# Altium schematic symbol library CONNECTORS.SchLib: 9 symbols
Pins are listed as number, name and electrical type; pins without a type are passive.

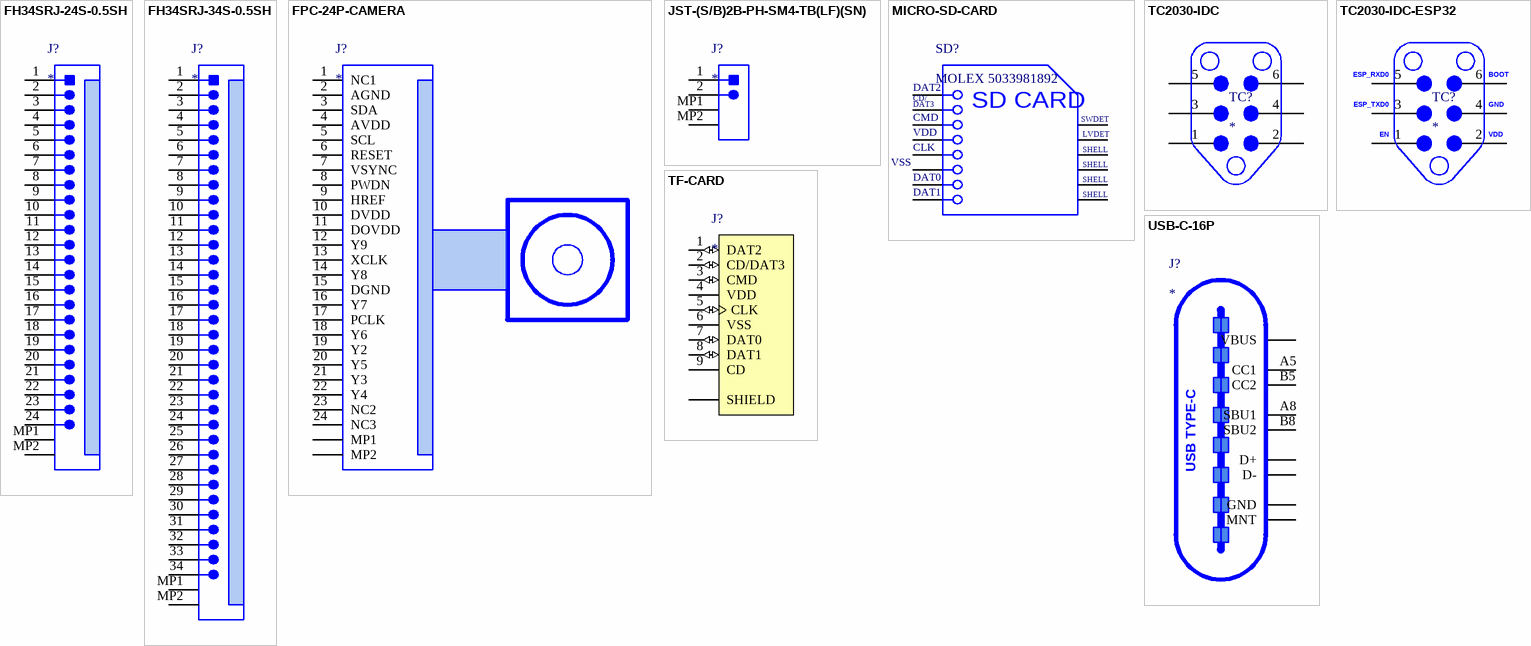
[diagram p0: symbols FH34SRJ-24S-0.5SH to USB-C-16P]

## FH34SRJ-24S-0.5SH
designator J?
footprint FH34SRJ-24S-0.5SH
pins: 1, 2, 3, 4, 5, 6, 7, 8, 9, 10, 11, 12, 13, 14, 15, 16, 17, 18, 19, 20, 21, 22, 23, 24, MP1, MP2

## FH34SRJ-34S-0.5SH
designator J?
footprint FPC_24P_DOUBLE_SIDED_CONTACTS (FH34SRJ-24S-0.5SH)
footprint FH34SRJ-34S-0.5SH
pins: 1, 2, 3, 4, 5, 6, 7, 8, 9, 10, 11, 12, 13, 14, 15, 16, 17, 18, 19, 20, 21, 22, 23, 24, 25, 26, 27, 28, 29, 30, 31, 32, 33, 34, MP1, MP2

## FPC-24P-CAMERA
designator J?
footprint FPC_24P_DOUBLE_SIDED_CONTACTS (With Camera) (FH34SRJ-24S-0.5SH)
footprint FPC_24P_CAMERA (FH34SRJ-24S-0.5SH)
pins: 1 NC1, 2 AGND, 3 SDA, 4 AVDD, 5 SCL, 6 RESET, 7 VSYNC, 8 PWDN, 9 HREF, 10 DVDD, 11 DOVDD, 12 Y9, 13 XCLK, 14 Y8, 15 DGND, 16 Y7, 17 PCLK, 18 Y6, 19 Y2, 20 Y5, 21 Y3, 22 Y4, 23 NC2, 24 NC3, MP1, MP2

## JST-(S/B)2B-PH-SM4-TB(LF)(SN)
designator J?
Connector Header Surface Mount, 2 position 0.079" (2.00mm)
footprint S2B-PH-SM4-TB(LF)(SN)
footprint B2B-PH-SM4-TB(LF)(SN)
pins: 1, 2, MP1, MP2

## MICRO-SD-CARD
designator SD?, comment MOLEX 5033981892
Deck MicroSD card (TF card) Self bomb SMD SD Card Connector
footprint MICRO-SD-CARD
footprint MICRO-SD-CARD (With Card) (MOLEX 5033981892)
pins: 1 DAT2, 2 CD/DAT3, 3 CMD, 4 VDD, 5 CLK, 6 VSS, 7 DAT0, 8 DAT1, 9 LVDET, 10 SWDET, SHLD, SHLD, SHLD, SHLD
text: CD/; DAT3; SD CARD; SHELL

## TC2030-IDC
designator TC?
6-Pin Tag-Connect Plug-of-Nails™ Spring-Pin Cable with Ribbon Connector
footprint TC2030-IDC
footprint TC2030-IDC-NL
pins: 1, 2, 3, 4, 5, 6

## TC2030-IDC-ESP32
designator TC?
TC2030-IDC for ESP32
footprint TC2030-IDC
footprint TC2030-IDC-NL
pins: 1 EN, 2 VDD, 3 ESP_TXD0, 4 GND, 5 ESP_RXD0, 6 BOOT

## TF-CARD
designator J?
footprint TF-01A
footprint TF-01A (With Card)
pins: 1 DAT2 (io), 2 CD/DAT3 (io), 3 CMD (io), 4 VDD (power), 5 CLK (io), 6 VSS (power), 7 DAT0 (io), 8 DAT1 (io), 9 CD, MNT SHIELD (power)

## USB-C-16P
designator J?
USB 3.1 Type-C 16 Pin SMD
footprint USB-C-16P (USB 3.1 Type-C 16 Pin SMD)
pins: A1, A12, B1, B12 GND, A4, A9, B4, B9 VBUS, A5 CC1, A6, B6 D+, A7, B7 D-, A8 SBU1, B5 CC2, B8 SBU2, MNT
text: USB TYPE-C